# EAGLE library part 750314178 (library Midcom Inc - EAGLE Lib V2-0)
Package Style: ER9.5 Mounting: SMD Pins: 8 pins Bobbin: 070-6051 Best pinouts for production vary per application. Please contact Wurth Electronics Midcom, Inc. for assistance with your custom design. Website: Wurth Electronics Midcom <http://www.we-online.com/midcom> Contact us Wurth Electronics Midcom, Inc. 121 Airport Dr. Watertown, SD 57201 Phone: (605) 886-4385 Fax: (605) 886-4486 E-Mail: midcom@we-online.com
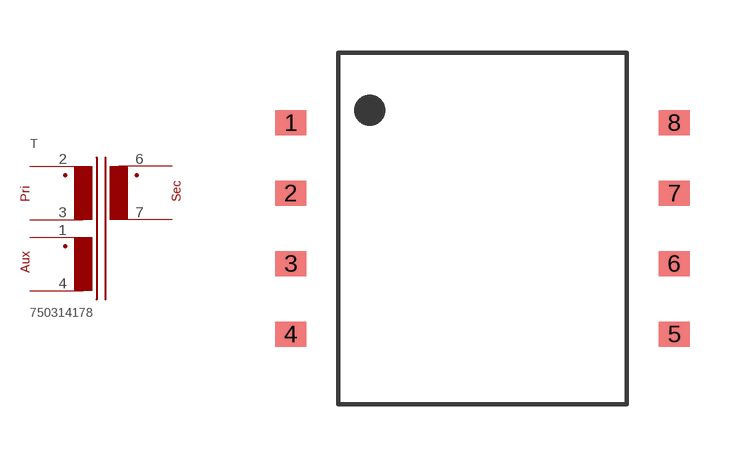
[diagram p51: symbol with the pads of ER9.5_SMD_V_8PIN_(6051); footprint ER9.5_SMD_V_8PIN_(6051)]

Designator prefix T

## 750314178  [ER9.5_SMD_V_8PIN_(6051)]
1  1  pas
2  2  pas
3  3  pas
4  4  pas
6  6  pas
7  7  pas

## Footprint ER9.5_SMD_V_8PIN_(6051) (pad centres in mm)
Package Style: ER9.5 Mounting: SMD Pins: 8 Bobbin: 070-6051
smd 0.889 x 0.711: 1 -5.461,3.01; 2 -5.461,1.003; 3 -5.461,-1.003; 4 -5.461,-3.01; 5 5.461,-3.01; 6 5.461,-1.003; 7 5.461,1.003; 8 5.461,3.01